# EAGLE library part A4973LB-SOICW16 (library AS-2-Extras)
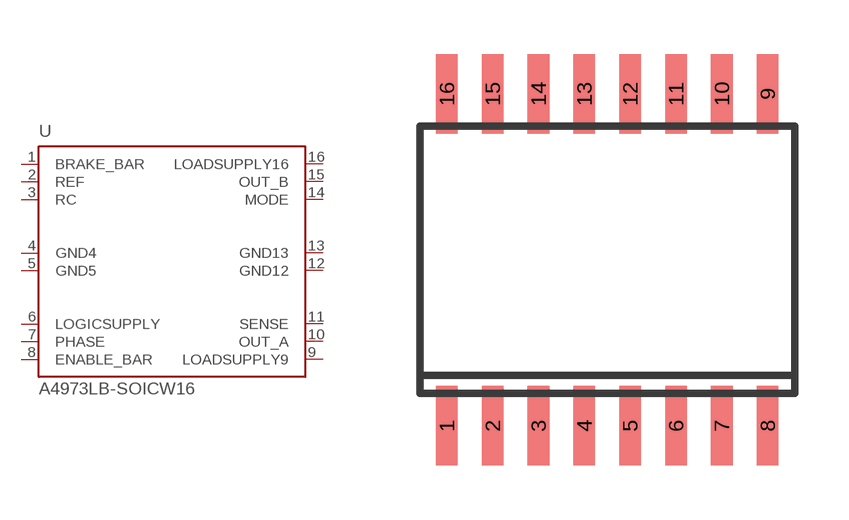
[diagram p1: symbol with the pads of A4973LB-SOICW16; footprint A4973LB-SOICW16]

Designator prefix -

## A4973LB-SOICW16  [A4973LB-SOICW16]
1  BRAKE_BAR  in
2  REF  in
3  RC  in
4  GND4  pwr
5  GND5  pwr
6  LOGICSUPPLY  pwr
7  PHASE  in
8  ENABLE_BAR  in
9  LOADSUPPLY9  nc
10  OUT_A  out
11  SENSE  in
12  GND12  pwr
13  GND13  pwr
14  MODE  in
15  OUT_B  out
16  LOADSUPPLY16  pwr

## Footprint A4973LB-SOICW16 (pad centres in mm)
smd 0.6 x 2.2: 1 -4.445,-4.6; 2 -3.175,-4.6; 3 -1.905,-4.6; 4 -0.635,-4.6; 5 0.635,-4.6; 6 1.905,-4.6; 7 3.175,-4.6; 8 4.445,-4.6; 9 4.445,4.6; 10 3.175,4.6; 11 1.905,4.6; 12 0.635,4.6; 13 -0.635,4.6; 14 -1.905,4.6; 15 -3.175,4.6; 16 -4.445,4.6